# Altium footprint library B-NT_P.PcbLib: 21 footprints (part 2 of 2)
Each footprint in its own frame and in the unit in brackets; x right, y up, seen from the top. Pads: shape width x height; smd on the part's side, far side on the other; paste and mask are expansions set on the pad; w line width, h text height; cw(c..) or ccw(c..) is an arc to the next point about the centre after c.
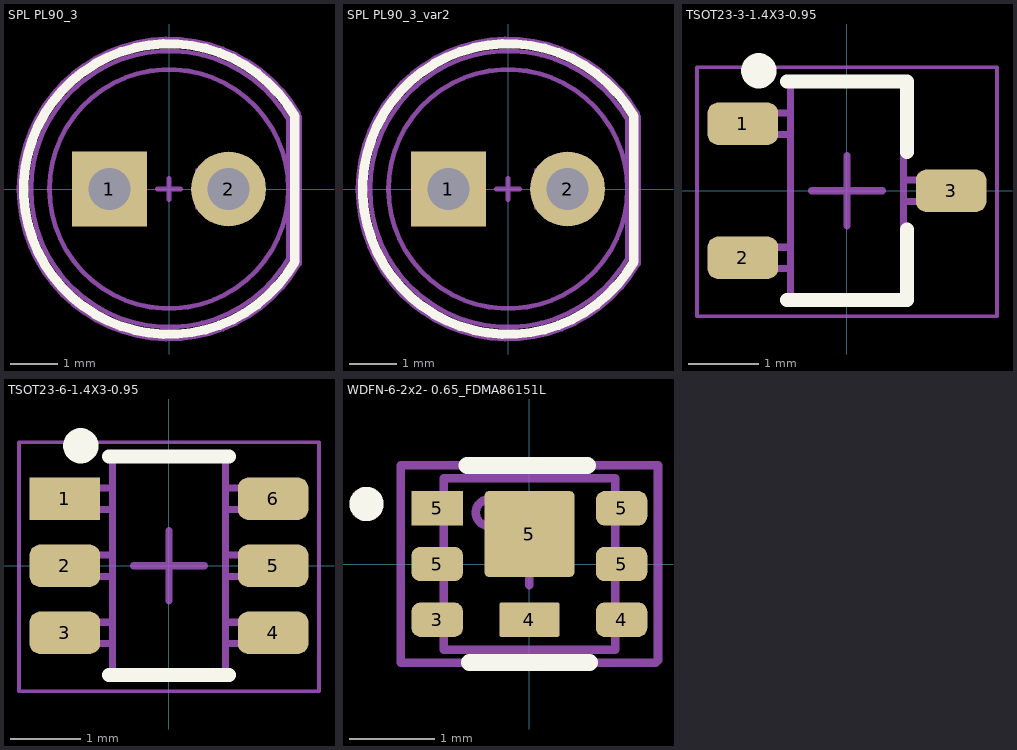
[diagram p1: the footprints below, top view; thin cyan lines are the x and y axes]

## SPL PL90_3 [mm] "Pulsed Laser Diode in Plastic Package"
height 5
pads (2):
  rect 1.6x1.6 hole 0.9: 1(-1.27,0)
  round 1.6 hole 0.9: 2(1.27,0)
Top Overlay:
  lines w0.2: 2.683,-1.552 cw(c0,0) 2.683,1.552 2.683,-1.552
M3 Top Assy:
  circle w0.1: c0,0 r2.55
  lines w0.1: 0.605,-0.4 0.605,0.4 ; 0.605,-0.025 0.993,-0.412 0.993,0.362 0.605,-0.025 ; 2.55,-1.475 cw(c0,0) 2.55,1.475 2.55,-1.475
M8 Top Brd Anno:
  lines w0.1: -0.25,0 0.25,0 ; 0,-0.225 0,0.225 ; 2.77,-1.602 cw(c0,0) 2.77,1.602 ; 2.783,-1.602 2.783,1.552
3D body "SPL_PL90_3_20170327_geometry.STEP": height 7.5, standoff -24.5, extent -2.925,-2.975 2.518,2.875

## SPL PL90_3_var2 [mm] "Pulsed Laser Diode in Plastic Package"
height 5
pads (2):
  rect 1.6x1.6 hole 0.9: 1(-1.27,0)
  round 1.6 hole 0.9: 2(1.27,0)
Top Overlay:
  lines w0.2: 2.683,-1.552 cw(c0,0) 2.683,1.552 2.683,-1.552
M3 Top Assy:
  circle w0.1: c0,0 r2.55
  lines w0.1: 0.605,-0.4 0.605,0.4 ; 0.605,-0.025 0.993,0.362 0.993,-0.412 0.605,-0.025 ; 2.55,-1.475 cw(c0,0) 2.55,1.475 2.55,-1.475
M8 Top Brd Anno:
  lines w0.1: -0.25,0 0.25,0 ; 0,-0.225 0,0.225 ; 2.77,-1.602 cw(c0,0) 2.77,1.602 ; 2.783,-1.602 2.783,1.552
3D body "SPL_PL90_3_20170327_geometry.STEP": height 7.5, standoff -24.5, extent -2.925,-2.975 2.518,2.875
3D body "SPL_PL90_3_20170327_geometry.STEP": height 5, standoff -27, extent -2.925,-2.975 2.518,2.875

## TSOT23-3-1.4X3-0.95 [mm] "SOT23, 3-Leads, Body 3x1.4 mm, Pitch 0.95mm,"
height 1
pads (3):
  rrect50% 1x0.6 smd: 1(-1.475,0.95) 2(-1.475,-0.95) 3(1.475,0)
Top Overlay:
  circle w0.25: c-1.25,1.7 r0.125
  lines w0.2: -0.85,-1.55 0.85,-1.55 0.85,-0.55 ; -0.85,1.55 0.85,1.55 0.85,0.55
M3 Top Assy:
  lines w0.1: -0.8,-1.1 -1.4,-1.1 -1.4,-0.8 -0.8,-0.8 ; -0.8,0.8 -1.4,0.8 -1.4,1.1 -0.8,1.1 ; -0.8,1.5 -0.8,-1.5 0.8,-1.5 0.8,1.5 ; -0.8,1.525 0.8,1.525 ; 0.8,-0.15 1.4,-0.15 1.4,0.15 0.8,0.15
M8 Top Brd Anno:
  lines w0.05: -2.125,-1.775 2.125,-1.775 2.125,1.75 -2.125,1.75 -2.125,-1.775
  lines w0.1: -0.5,0 0.5,0 ; 0,-0.5 0,0.5
3D body "User Library-SOT23-3.step": height 1.3, standoff 0, extent -1.4,-1.45 1.4,1.45

## TSOT23-6-1.4X3-0.95 [mm] "SSOT, 6-Leads, Body 2,9x1,75mm, Pitch 0,95mm"
height 1
pads (6):
  rect 1x0.6 smd: 1(-1.475,0.95)
  rrect50% 1x0.6 smd: 2(-1.475,0) 3(-1.475,-0.95) 4(1.475,-0.95) 5(1.475,0) 6(1.475,0.95)
Top Overlay:
  circle w0.25: c-1.25,1.7 r0.125
  lines w0.2: -0.85,-1.55 0.85,-1.55 ; -0.85,1.55 0.85,1.55
M3 Top Assy:
  lines w0.1: -0.8,-1.1 -1.4,-1.1 -1.4,-0.8 -0.8,-0.8 ; -0.8,-0.15 -1.4,-0.15 -1.4,0.15 -0.8,0.15 ; -0.8,0.8 -1.4,0.8 -1.4,1.1 -0.8,1.1 ; -0.8,1.5 -0.8,-1.5 0.8,-1.5 0.8,1.5 ; -0.8,1.525 0.8,1.525 ; 0.8,-1.1 1.4,-1.1 1.4,-0.8 0.8,-0.8 ; 0.8,0.8 1.4,0.8 1.4,1.1 0.8,1.1 ; 0.825,-0.15 1.425,-0.15 1.425,0.15 0.825,0.15
M8 Top Brd Anno:
  lines w0.05: -2.125,-1.775 -2.125,1.75 2.125,1.75 2.125,-1.775 -2.125,-1.775
  lines w0.1: -0.5,0 0.5,0 ; 0,-0.5 0,0.5
3D body "User Library-SSOT-6.STEP": height 1.05, standoff 0, extent -1.5,-1.5 1.5,1.5

## WDFN-6-2x2- 0.65_FDMA86151L [mm]
height 0.8
pads (8):
  rrect50% 0.6x0.4 smd: 3(-1.075,-0.65) 4(1.075,-0.65) 5(-1.075,0) 5(1.075,0) 5(1.075,0.65)
  rrect10% 0.7x0.4 smd: 4(0,-0.65)
  rect 0.6x0.4 smd: 5(-1.075,0.65)
  rrect10% 1.05x1 smd: 5(0,0.35)
Top Overlay:
  circle w0.2: c-1.9,0.7 r0.1
  lines w0.2: -0.725,1.15 0.675,1.15 ; -0.7,-1.15 0.7,-1.15
M3 Top Assy:
  circle w0.1: c-0.475,0.6 r0.152
  lines w0.1: -1,-1 -1,1 1,1 1,-1 -1,-1
M8 Top Brd Anno:
  lines w0.1: -0.25,0 0.25,0 ; 0,-0.25 0,0.25 ; -1.5,-1.15 -1.5,-1.125 -1.5,1.15 1.5,1.15 1.5,-1.125 1.475,-1.15 -1.5,-1.15
3D body "User Library-MicroFET-6(2_0).STEP": height 0.8, standoff 0, extent -1,-1 1,1